# Altium footprint library HomeAutomation.PcbLib: 19 footprints (part 1 of 2)
Each footprint in its own frame and in the unit in brackets; x right, y up, seen from the top. Pads: shape width x height; smd on the part's side, far side on the other; paste and mask are expansions set on the pad; w line width, h text height; cw(c..) or ccw(c..) is an arc to the next point about the centre after c.
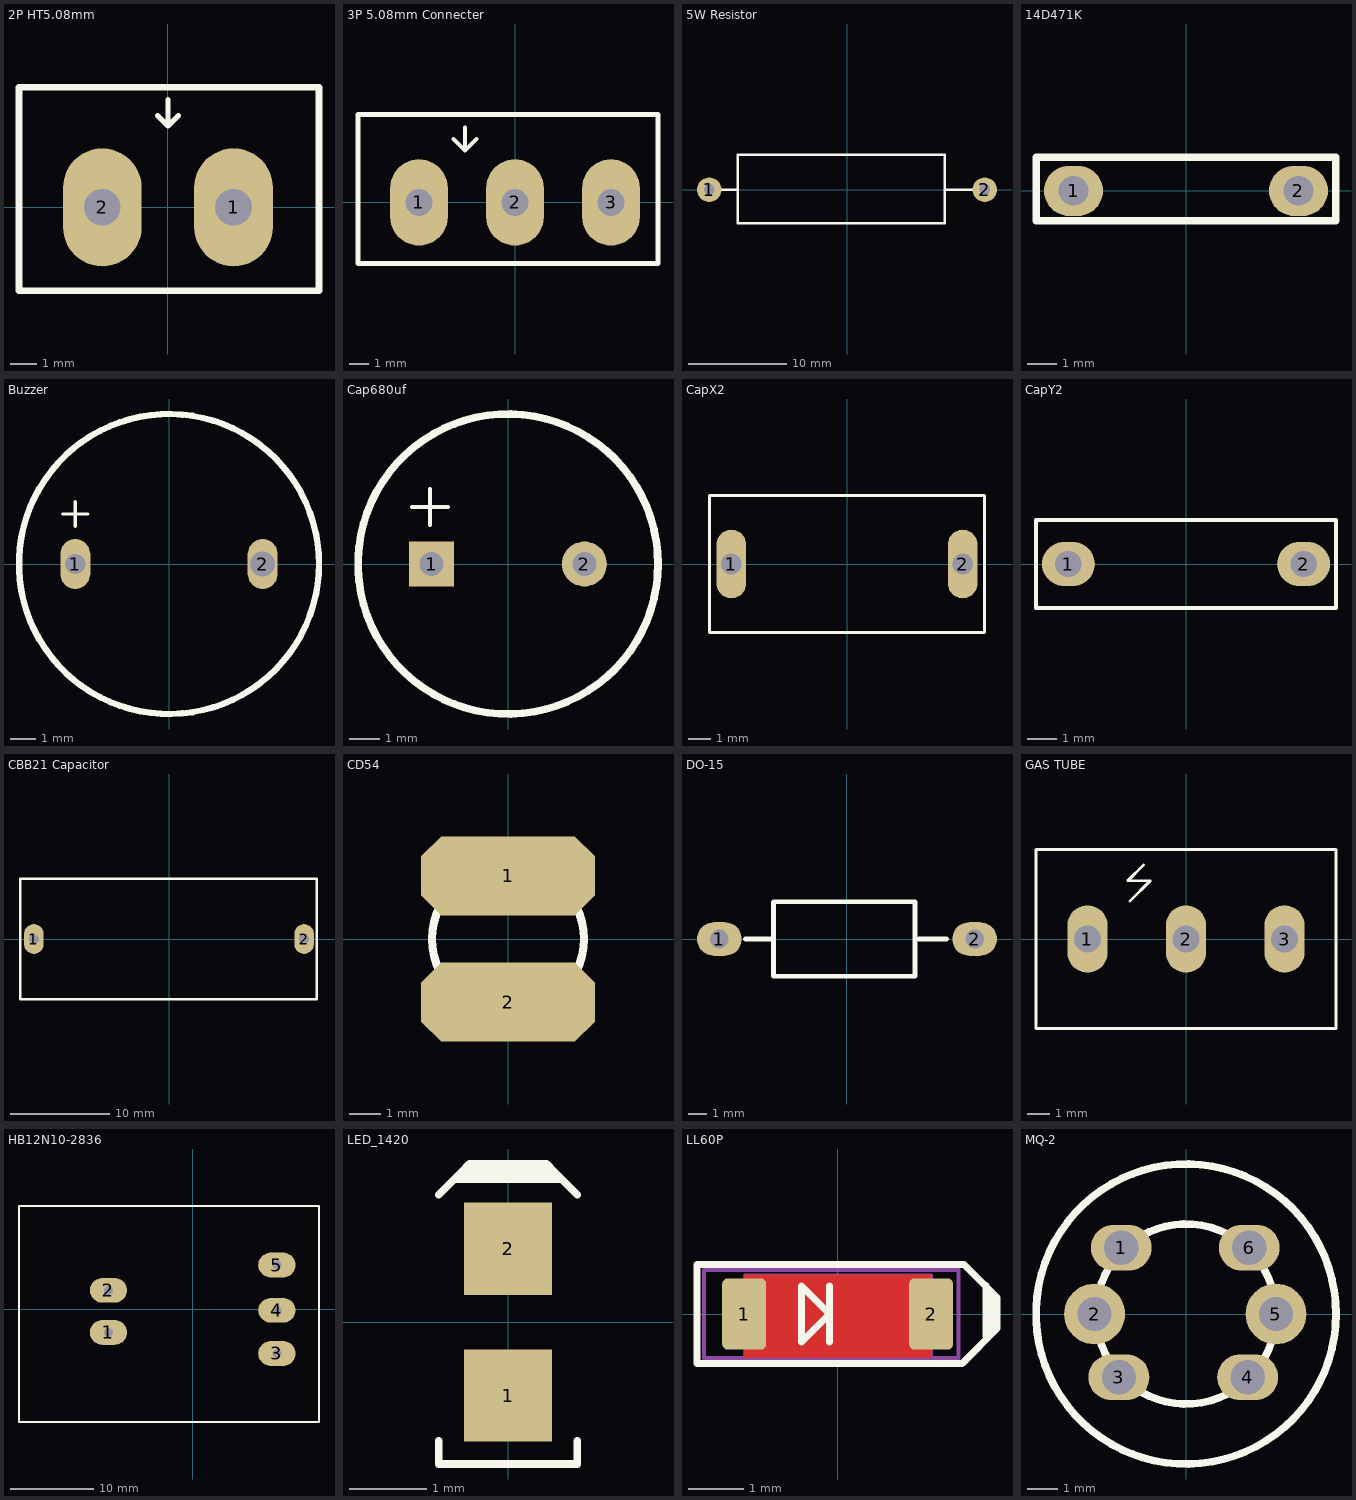
[diagram p0: the footprints below, top view; thin cyan lines are the x and y axes]

## 2P HT5.08mm [mm]
height 10
pads (2):
  oval 3x4.5 hole 1.4: 1(2.5,0) 2(-2.5,0)
Top Overlay:
  lines w0.2: -0.4,3.5 0,3.1 ; 0,4.1 0,3.1 ; 0.4,3.5 0,3.1 ; 0,3.1 0,3.1
  lines w0.254: -5.675,-3.175 -5.675,0 -5.675,4.572 5.755,4.572 5.755,-3.175 -5.675,-3.175
3D body: height 20.6, standoff 0.1, extent -5.548,-3.048 5.628,4.445

## 3P 5.08mm Connecter [mm]
height 10
pads (3):
  oval 3x4.5 hole 1.4: 1(-5,0) 2(0,0) 3(5,0)
Top Overlay:
  lines w0.2: -3.2,3.3 -2.6,2.7 ; -2.6,3.9 -2.6,2.7 ; -2,3.3 -2.6,2.7 ; -2.6,2.7 -2.6,2.7
  lines w0.254: -8.175,-3.175 -8.175,0 -8.175,4.572 7.446,4.572 7.446,-3.175 -8.175,-3.175
3D body: height 7, standoff 0.1, extent -8.048,-3.048 7.319,4.445

## 5W Resistor [mm]
height 7
pads (2):
  round 2.5 hole 1.1: 1(-14.034,0) 2(14.034,0)
Top Overlay:
  lines w0.254: -12.89,0 -11.112,0 ; 12.89,0 9.97,0 ; -11.112,0 -11.112,-3.429 9.97,-3.429 9.97,0 ; -11.112,0 -11.112,3.556 9.97,3.556 9.97,0
3D body: height 7, standoff 0.1, extent -10.986,-3.302 9.842,3.429

## 14D471K [mm] "varistor"
height 20
pads (2):
  oval 2x1.7 hole 1: 1(-3.81,0) 2(3.81,0)
Top Overlay:
  lines w0.254: -5.08,-1.016 -5.08,1.143 5.08,1.143 5.08,-1.016 -5.08,-1.016
3D body: height 20.6, standoff 0.1, extent -4.953,-0.889 4.953,1.016

## Buzzer [mm]
height 9.5
pads (2):
  oval 1.2x2 hole 0.8: 1(-3.75,0)
  oval 1.2x2 hole 1: 2(3.75,0)
Top Overlay:
  circle w0.254: c0,0 r6
  lines w0.127: -4.25,2 -3.25,2 ; -3.75,1.5 -3.75,2.5

## Cap680uf [mm] "680uF 25V"
height 17
pads (2):
  rect 1.5x1.5 hole 0.8: 1(-2.55,0)
  round 1.5 hole 0.8: 2(2.55,0)
Top Overlay:
  circle w0.254: c0,0 r5.004
  lines w0.127: -3.2,1.9 -2,1.9 ; -2.6,1.3 -2.6,2.5

## CapX2 [mm]
height 12
pads (2):
  oval 1.3x3 hole 0.9: 1(-5.05,0) 2(5.05,0)
Top Overlay:
  lines w0.127: -6,-3 6,-3 6,3 -6,3 -6,-3
3D body: height 12, standoff 0, extent -6,-3 6,3

## CapY2 [mm]
pads (2):
  oval 1.8x1.5 hole 0.9: 1(-4,0) 2(4,0)
Top Overlay:
  lines w0.127: -5.1,-1.5 5.1,-1.5 5.1,1.5 -5.1,1.5 -5.1,-1.5

## CBB21 Capacitor [mm] "105J/1000V 1UF 5%"
pads (2):
  oval 2x3 hole 1: 1(-13.652,0) 2(13.652,0)
Top Overlay:
  lines w0.254: -15.05,-6.096 -15.05,6.096 14.922,6.096 14.922,-6.096 -15.05,-6.096
3D body: height 20.6, standoff 0.1, extent -14.922,-5.969 14.795,5.969

## CD54 [mm]
height 4.6
pads (2):
  oct 5.5x2.5 smd: 1(0,2) 2(0,-2)
Top Overlay:
  circle w0.254: c0,0 r2.4

## DO-15 [mm] "TVS Tube"
height 3.6
pads (2):
  oval 2.4x1.8 hole 1: 1(-6.85,0) 2(6.85,0)
Top Overlay:
  lines w0.254: -5.45,0 -3.95,0 ; 3.85,0 5.35,0 ; -3.95,0 -3.95,2 3.65,2 3.65,-2 -3.95,-2 -3.95,0

## GAS TUBE [mm]
height 10
pads (3):
  oval 1.8x3 hole 1.2: 1(-4.4,0) 2(0,0) 3(4.4,0)
Top Overlay:
  lines w0.127: -2.5,1.7 -1.6,2.6 -2.6,2.6 -1.9,3.3 ; -6.7,-4 -6.7,4 6.7,4 6.7,-4 -6.7,-4

## HB12N10-2836 [mm] "220V AC to 12VDC 1A"
height 16
pads (5):
  oval 4.5x3 hole 1.1: 1(-10.16,-2.794) 2(-10.16,2.286) 3(10.16,-5.334) 4(10.16,-0.127) 5(10.16,5.334)
Top Overlay:
  lines w0.254: -20.955,-13.589 -20.955,12.446 15.24,12.446 15.24,-13.589 -20.955,-13.589
3D body: height 16, standoff 0.1, extent -21.081,-13.589 15.113,12.446

## LED_1420 [mm] "LED used in 1420"
pads (2):
  rect 1.14x1.2 smd: 1(0,-0.955) 2(0,0.955)
Top Overlay:
  lines w0.1: -0.9,-1.545 -0.9,-1.845 0.9,-1.845 0.9,-1.545 ; -0.9,1.655 -0.7,1.855 ; 0.9,1.655 0.7,1.855 ; -0.7,1.855 0.7,1.855 ; -0.7,1.855 -0.6,1.955 ; -0.6,1.955 0.6,1.955 ; -0.6,1.955 -0.6,1.955 ; -0.6,1.955 -0.5,2.055 0.5,2.055 0.6,1.955 ; 0.6,1.955 0.7,1.855

## LL60P [mm] "1N60P"
height 0.8
pads (2):
  rrect25% 0.8x1.3 smd: 1(-1.7,0) 2(1.7,0)
Top Layer:
  pour cut-out: -1.708,0.716 1.7,0.716 1.7,-0.8 -1.708,-0.8
Top Overlay:
  lines w0.127: -0.146,-0.508 -0.146,0.508 ; 2.7,-0.4 2.7,0.514 ; 2.8,-0.367 2.8,0.4 ; -2.559,-0.9 1.367,-0.9 2.267,-0.9 2.9,-0.267 2.9,0.3 2.3,0.9 1.4,0.9 -2.559,0.9 -2.559,-0.9 ; -0.654,-0.508 -0.654,0.508 -0.146,0 -0.654,-0.508
Mechanical 13:
  lines w0.076: -1.675,-0.8 -1.675,0.7 1.7,0.7 1.7,-0.8 0.375,-0.8 -1.175,-0.8 -1.675,-0.8
Mechanical 15:
  lines w0.076: -0.908,0 0.108,0 ; -0.4,-0.508 -0.4,0.508 ; -2.432,-0.8 2.2,-0.8 2.2,0.8 -2.432,0.8 -2.432,-0.8
3D body: height 0.8, standoff 0, extent -1.7,-0.8 1.4,0.7
3D body: height 0.15, standoff 0, extent 1.35,-0.3 2.05,0.3
3D body: height 0.15, standoff 0, extent -2,-0.3 -1.3,0.3

## MQ-2 [mil]
height 905.51
pads (6):
  oval 80x60 hole 45: 1(-85,87) 3(-88,-83) 4(81,-83) 6(83,87)
  round 80 hole 45: 2(-120,0) 5(118.11,0)
Top Overlay:
  circle w10: c0,0 r118.11
  circle w10: c0,0 r196.85
3D body: height 393.7, standoff 0, extent -196.85,-196.79 196.85,196.8